# Altium footprint library PCB.PcbLib: 9 footprints
Each footprint in its own frame and in the unit in brackets; x right, y up, seen from the top. Pads: shape width x height; smd on the part's side, far side on the other; paste and mask are expansions set on the pad; w line width, h text height; cw(c..) or ccw(c..) is an arc to the next point about the centre after c.
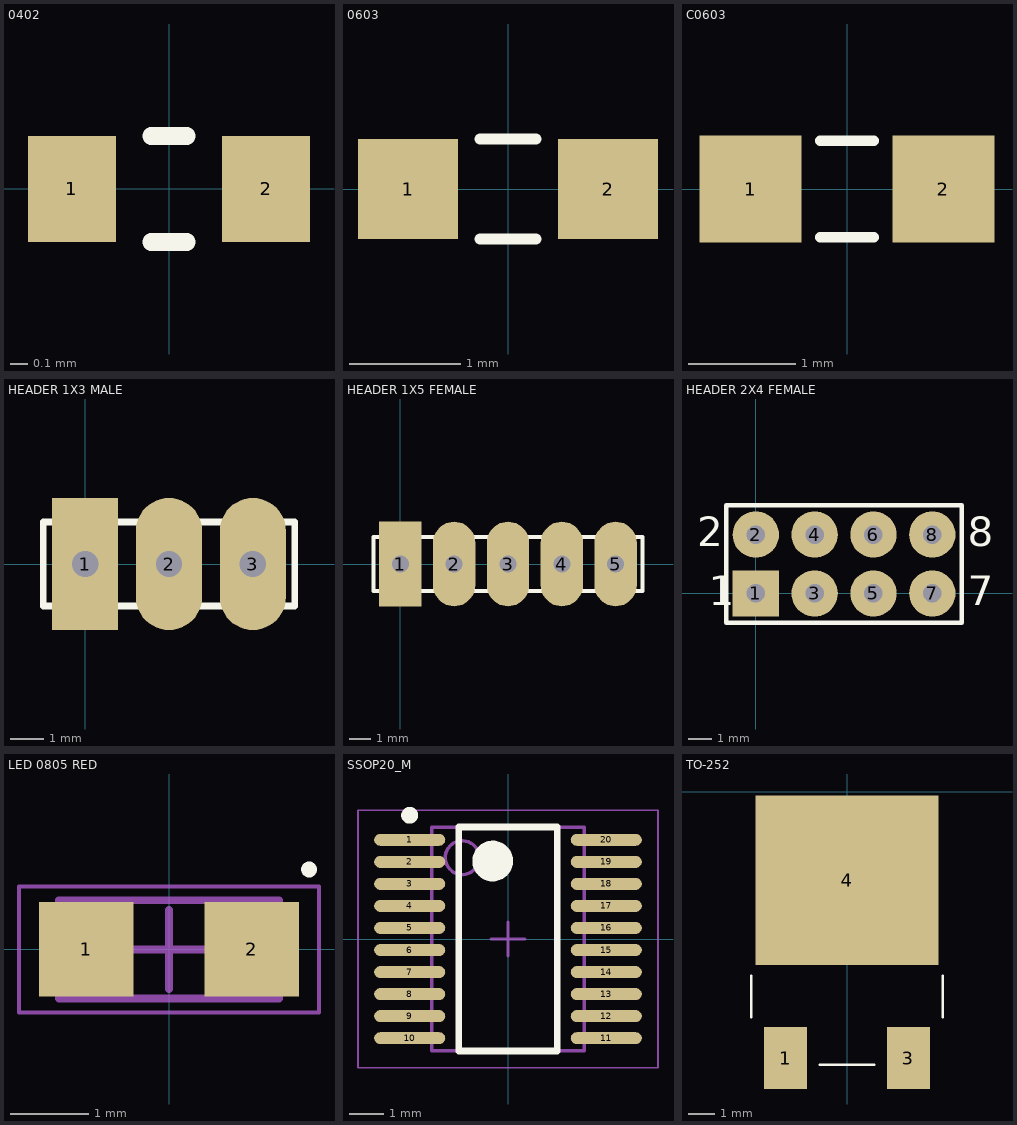
[diagram p0: the footprints below, top view; thin cyan lines are the x and y axes]

## 0402 [mm]
pads (2):
  rect 0.5x0.6 smd: 1(-0.55,0) 2(0.55,0)
Top Overlay:
  lines w0.1: -0.1,-0.3 0.1,-0.3 ; -0.1,0.3 0.1,0.3
3D body "User Library-0402R.STEP": height 0.34, standoff 0, extent -0.52,-0.3 0.52,0.3

## 0603 [mm]
pads (2):
  rect 0.9x0.9 smd: 1(-0.9,0) 2(0.9,0)
Top Overlay:
  lines w0.1: -0.25,-0.45 0.25,-0.45 ; -0.25,0.45 0.25,0.45
3D body "User Library-R_0603.STEP": height 0.5, standoff 0, extent -0.8,-0.45 0.8,0.45

## C0603 [mm]
pads (2):
  rect 0.95x1 smd: 1(-0.9,0) 2(0.9,0)
Top Overlay:
  lines w0.1: -0.25,-0.45 0.25,-0.45 ; -0.25,0.45 0.25,0.45
3D body "SW3dPS-0603 SMD Capacitor.STEP": height 0.3, standoff 0, extent -0.8,-0.4 0.8,0.4

## HEADER 1X3 MALE [mm]
pads (3):
  rect 2x4 hole 0.8: 1(0,0)
  oval 2x4 hole 0.8: 2(2.54,0) 3(5.08,0)
Top Overlay:
  lines w0.2: -1.27,-1.27 -1.27,1.27 6.35,1.27 6.35,-1.27 -1.27,-1.27
3D body "pin_header_aw140-eg-g03d.stp": height 8.2, standoff -3, extent -1.17,-1.246 6.45,1.253

## HEADER 1X5 FEMALE [mm]
pads (5):
  rect 2x4 hole 0.8: 1(0,0)
  oval 2x4 hole 0.8: 2(2.54,0) 3(5.08,0) 4(7.62,0) 5(10.16,0)
Top Overlay:
  lines w0.2: -1.27,-1.27 -1.27,1.27 11.43,1.27 11.43,-1.27 -1.27,-1.27
3D body "f.stp": height 8.5, standoff -3.2, extent -1.395,-1.25 11.555,1.25

## HEADER 2X4 FEMALE [mm]
pads (8):
  rect 2x2 hole 0.8: 1(0,0)
  round 2 hole 0.8: 2(0,2.54) 3(2.54,0) 4(2.54,2.54) 5(5.08,0) 6(5.08,2.54) 7(7.62,0) 8(7.62,2.54)
Top Overlay:
  lines w0.2: -1.27,-1.27 -1.27,3.81 8.89,3.81 8.89,-1.27 -1.27,-1.27
  text "8" at 9.144,2.032 h1.27
  text "7" at 9.144,-0.508 h1.27
  text "1" at -2.032,-0.508 h1.27
  text "2" at -2.54,2.032 h1.27
3D body "female_header_a-bl254-dg-g08d.stp": height 8.5, standoff -3.2, extent -1.395,-1.23 9.015,3.77

## LED 0805 RED [mm]
pads (2):
  rect 1.2x1.2 smd: 1(-1.05,0) 2(1.05,0)
Top Overlay:
  circle w0.1: c1.778,1.016 r0.05
Mechanical 13:
  lines w0.1: -1.397,-0.625 1.397,-0.625 1.397,0.625 -1.397,0.625 -1.397,-0.625
Mechanical 15:
  lines w0.05: -1.905,-0.8 1.905,-0.8 1.905,0.8 -1.905,0.8 -1.905,-0.8
  lines w0.1: -0.5,0 0.5,0 ; 0,-0.5 0,0.5
3D body "User Library-led_0805.step": height 1.1, standoff 0, extent -1.01,-0.625 1.01,0.625

## SSOP20_M [mm]
pads (20):
  oval 2.1x0.35 smd: 1(-2.9,2.925) 2(-2.9,2.275) 3(-2.9,1.625) 4(-2.9,0.975) 5(-2.9,0.325) 6(-2.9,-0.325) 7(-2.9,-0.975) 8(-2.9,-1.625) 9(-2.9,-2.275) 10(-2.9,-2.925) 11(2.9,-2.925) 12(2.9,-2.275) 13(2.9,-1.625) 14(2.9,-0.975) 15(2.9,-0.325) 16(2.9,0.325) 17(2.9,0.975) 18(2.9,1.625) 19(2.9,2.275) 20(2.9,2.925)
Top Overlay:
  circle w0.6: c-0.45,2.3 r0.3
  circle w0.25: c-2.9,3.65 r0.125
  lines w0.2: -1.45,-3.3 1.45,-3.3 1.45,3.3 -1.45,3.3 -1.45,-3.3
Mechanical 13:
  circle w0.1: c-1.35,2.4 r0.5
  lines w0.1: -2.25,-3.3 2.25,-3.3 2.25,3.3 -2.25,3.3 -2.25,-3.3
Mechanical 15:
  lines w0.05: -4.425,-3.8 4.425,-3.8 4.425,3.8 -4.425,3.8 -4.425,-3.8
  lines w0.1: -0.5,0 0.5,0 ; 0,-0.5 0,0.5
3D body "User Library-TSSOP20_TP.STEP": height -0.31, standoff -1.51, extent -3.105,-3.377 3.175,3.123

## TO-252 [mm]
pads (3):
  rect 1.6x2.3 smd: 1(-2.286,-9.906) 3(2.286,-9.906)
  rect 6.8x6.3 smd: 4(0,-3.302)
Top Overlay:
  lines w0.1: -3.556,-8.382 -3.556,-6.858 ; -1.016,-10.16 1.016,-10.16 ; 3.556,-8.382 3.556,-6.858
3D body "User Library-DPAK_TO-252AA.STEP": height 2.37, standoff -0.03, extent -3.367,-10.67 3.367,-0.57